# EAGLE library part TPS54331 (library angrypig7-IC-Power)
DC-DC Step-Down regulator 3.5~28V in 3A out 570Khz 115mΩ internal MOSFET 1uA quiescent current
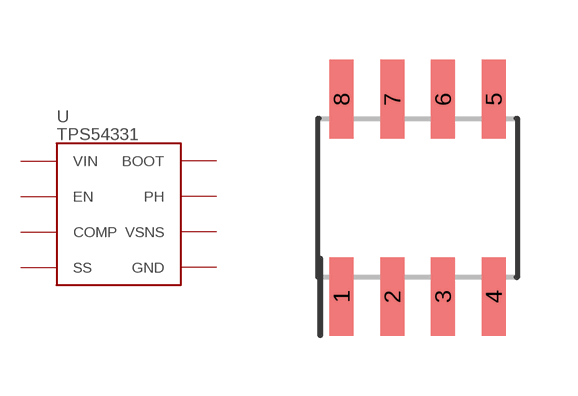
[diagram p4: symbol with the pads of SOIC-8_150MIL; footprint SOIC-8_150MIL]

Designator prefix U

## TPS54331  [SOIC-8_150MIL]
1  BOOT  out
2  VIN  in
3  EN  in
4  SS  out
5  VSNS  pwr
6  COMP  pwr
7  GND  pwr
8  PH  in

## Footprint SOIC-8_150MIL (pad centres in mm)
8-SOIC, 1.27 mm pitch, 6.00 mm span, 4.91 X 3.90 X 1.75 mm body 8-pin SOIC package with 1.27 mm pitch, 6.00 mm span with body size 4.91 X 3.90 X 1.75 mm
smd 0.599 x 1.967: 1 -1.905,-2.469; 2 -0.635,-2.469; 3 0.635,-2.469; 4 1.905,-2.469; 5 1.905,2.469; 6 0.635,2.469; 7 -0.635,2.469; 8 -1.905,2.469